# Altium footprint library EISI.PcbLib: 695 footprints (part 9 of 44)
Each footprint in its own frame and in the unit in brackets; x right, y up, seen from the top. Pads: shape width x height; smd on the part's side, far side on the other; paste and mask are expansions set on the pad; w line width, h text height; cw(c..) or ccw(c..) is an arc to the next point about the centre after c.
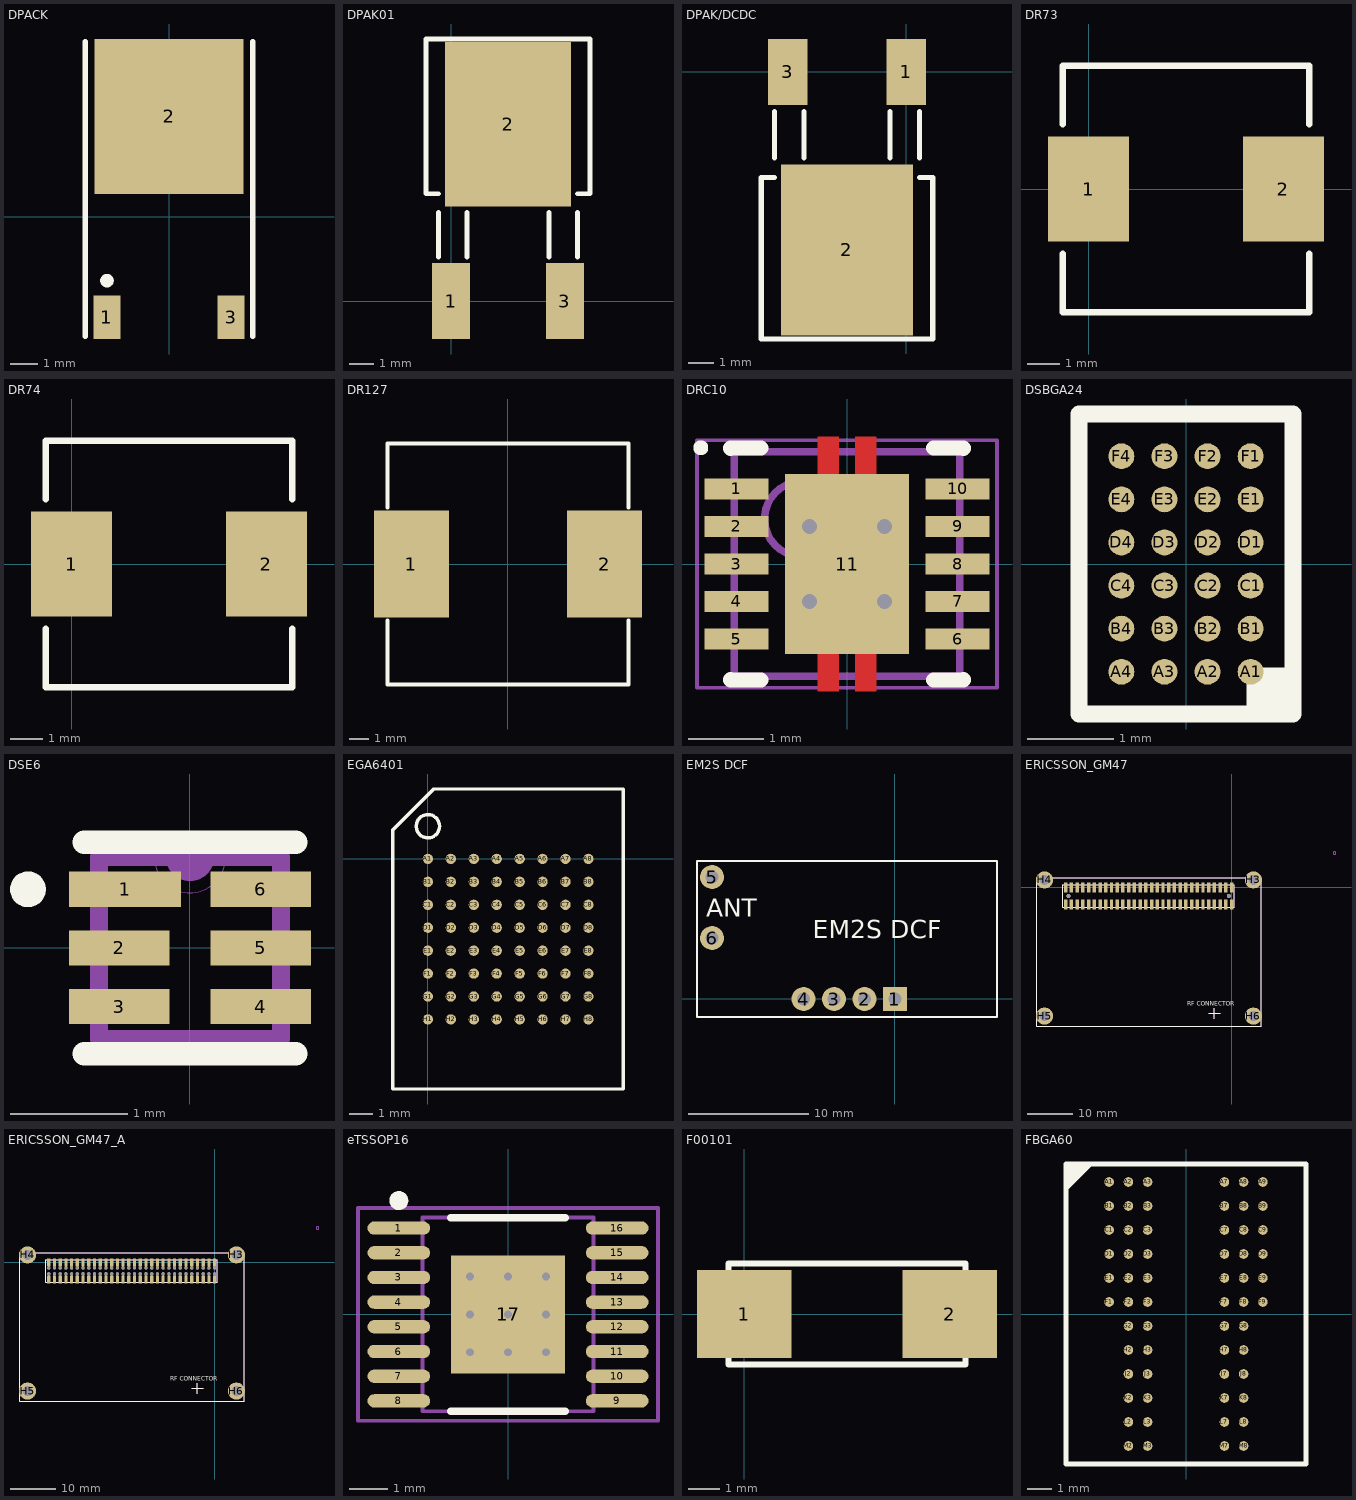
[diagram p8: the footprints below, top view; thin cyan lines are the x and y axes]

## DPACK [mm] "D-PAK; Body 10.3 x 6.7 mm"
height 2.38
pads (3):
  rect 1x1.6 smd: 1(-2.285,-3.7) 3(2.285,-3.7)
  rect 5.5x5.7 smd: 2(0,3.7)
TopOverlay:
  circle w0.25: c-2.285,-2.35 r0.125
  lines w0.2: -3.085,-4.4 -3.085,6.45 ; 3.085,-4.4 3.085,6.45

## DPAK01 [mil]
pads (3):
  rect 60x120 smd: 1(0,0) 3(180,0)
  rect 200x260 smd: 2(90,280)
TopOverlay:
  lines w7.87: -20,70 -20,140 ; -20,170 -40,170 -40,415 220,415 220,170 200,170 ; 25,70 25,140 ; 155,70 155,140 ; 200,70 200,140

## DPAK/DCDC [mil]
pads (3):
  rect 60x100 smd: 1(0,0) 3(-180,0)
  rect 200x260 smd: 2(-90,-270)
TopOverlay:
  lines w7.87: -200,-160 -220,-160 -220,-405 40,-405 40,-160 20,-160 ; -200,-130 -200,-60 ; -155,-130 -155,-60 ; -25,-130 -25,-60 ; 20,-130 20,-60

## DR73 [mm] "Inductance Coiltronic DR73 7.6mm x 7.6 mm"
height 3.55
pads (2):
  rect 2.5x3.25 smd: 1(0,0) 2(6,0)
TopOverlay:
  lines w0.2: -0.8,-2 -0.8,-3.8 6.8,-3.8 6.8,-2 ; -0.8,2 -0.8,3.8 6.8,3.8 6.8,2

## DR74 [mm] "Inductance Coiltronic DR74 7.6mm x 7.6 mm"
height 4.35
pads (2):
  rect 2.5x3.25 smd: 1(0,0) 2(6,0)
TopOverlay:
  lines w0.2: -0.8,-2 -0.8,-3.8 6.8,-3.8 6.8,-2 ; -0.8,2 -0.8,3.8 6.8,3.8 6.8,2

## DR127 [mm] "Inductance DR127"
height 8
pads (2):
  rect 3.85x5.5 smd: 1(-4.975,0) 2(4.975,0)
TopOverlay:
  lines w0.2: -6.2,-2.9 -6.2,-6.2 6.2,-6.2 6.2,-2.9 ; -6.2,2.9 -6.2,6.2 6.2,6.2 6.2,2.9

## DRC10 [mm] "SON, 10-Leads, Body 3x3mm, Pitch 0.5mm, Thermal Pad 3x1.65mm"
height 1
pads (11):
  rect 0.85x0.28 smd: 1(-1.475,1) 2(-1.475,0.5) 3(-1.475,0) 4(-1.475,-0.5) 5(-1.475,-1) 6(1.475,-1) 7(1.475,-0.5) 8(1.475,0) 9(1.475,0.5) 10(1.475,1)
  rect 1.65x2.4 smd: 11(0,0)
via -0.5,0.5 diameter 0.5 hole 0.2
via 0.5,0.5 diameter 0.5 hole 0.2
via -0.5,-0.5 diameter 0.5 hole 0.2
via 0.5,-0.5 diameter 0.5 hole 0.2
TopLayer:
  region: -0.11,1.2 -0.11,1.7 -0.39,1.7 -0.39,1.2
  region: 0.11,-1.2 0.11,-1.7 0.39,-1.7 0.39,-1.2
  region: -0.11,-1.2 -0.11,-1.7 -0.39,-1.7 -0.39,-1.2
  region: 0.11,1.2 0.11,1.7 0.39,1.7 0.39,1.2
TopOverlay:
  circle w0.1: c-1.95,1.55 r0.05
  lines w0.2: -1.55,-1.54 -1.55,-1.55 -1.15,-1.55 ; -1.55,1.54 -1.55,1.55 -1.15,1.55 ; 1.15,-1.55 1.55,-1.55 1.55,-1.54 ; 1.15,1.55 1.55,1.55 1.55,1.54
TopPaste:
  region: -0.11,1.2 -0.11,1.7 -0.39,1.7 -0.39,1.2
  region: 0.11,-1.2 0.11,-1.7 0.39,-1.7 0.39,-1.2
  region: -0.11,-1.2 -0.11,-1.7 -0.39,-1.7 -0.39,-1.2
  region: 0.11,1.2 0.11,1.7 0.39,1.7 0.39,1.2
Mechanical13:
  circle w0.1: c-0.6,0.6 r0.5
  lines w0.1: -1.5,-1.5 -1.5,1.5 1.5,1.5 1.5,-1.5 -1.5,-1.5
Mechanical15:
  lines w0.05: -2,-1.65 -2,1.65 2,1.65 2,-1.65 -2,-1.65
  lines w0.1: -0.5,0 0.5,0 ; 0,-0.5 0,0.5
3D body: height 1, standoff 0, extent -1.5,-1.5 1.5,1.5

## DSBGA24 [mm] "DSBGA24 (YZF) 2.45mm x 3.45mm"
height 0.625
pads (24):
  round 0.3 smd: A1(0.75,-1.25) A2(0.25,-1.25) A3(-0.25,-1.25) A4(-0.75,-1.25) B1(0.75,-0.75) B2(0.25,-0.75) B3(-0.25,-0.75) B4(-0.75,-0.75) C1(0.75,-0.25) C2(0.25,-0.25) C3(-0.25,-0.25) C4(-0.75,-0.25) D1(0.75,0.25) D2(0.25,0.25) D3(-0.25,0.25) D4(-0.75,0.25) E1(0.75,0.75) E2(0.25,0.75) E3(-0.25,0.75) E4(-0.75,0.75) F1(0.75,1.25) F2(0.25,1.25) F3(-0.25,1.25) F4(-0.75,1.25)
TopOverlay:
  lines w0.2: 0.8,-1.74 0.8,-1.3 1.14,-1.3 1.24,-1.4 ; 1.24,-1.4 1.24,-1.5 1,-1.74 1,-1.4 1.24,-1.4 ; -1.24,-1.74 -1.24,1.74 1.24,1.74 1.24,-1.74 -1.24,-1.74

## DSE6 [mm]
height 0.8
pads (6):
  rect 0.954x0.3 smd paste-0.15: 1(-0.553,0.5)
  rect 0.854x0.3 smd paste-0.15: 2(-0.603,0) 3(-0.603,-0.5) 4(0.603,-0.5) 5(0.603,0) 6(0.603,0.5)
TopOverlay:
  circle w0.152: c-1.381,0.5 r0.076
  lines w0.2: -0.9,-0.9 0.9,-0.9 ; -0.9,0.9 0.9,0.9
TopPaste:
  region: 1.005,0.625 0.201,0.625 0.201,0.375 1.005,0.375
  region: 1.005,0.125 0.201,0.125 0.201,-0.125 1.005,-0.125
  region: 1.005,-0.375 0.201,-0.375 0.201,-0.625 1.005,-0.625
  region: -0.201,-0.375 -1.005,-0.375 -1.005,-0.625 -0.201,-0.625
  region: -0.201,0.125 -1.005,0.125 -1.005,-0.125 -0.201,-0.125
  region: -0.201,0.625 -1.005,0.625 -1.005,0.375 -0.201,0.375
TopSolder:
  region: 1.1,0.72 0.106,0.72 0.106,0.28 1.1,0.28
  region: 1.1,0.22 0.106,0.22 0.106,-0.22 1.1,-0.22
  region: 1.1,-0.28 0.106,-0.28 0.106,-0.72 1.1,-0.72
  region: -0.106,-0.28 -1.1,-0.28 -1.1,-0.72 -0.106,-0.72
  region: -0.106,0.22 -1.1,0.22 -1.1,-0.22 -0.106,-0.22
  region: -0.106,0.72 -1.1,0.72 -1.1,0.28 -0.106,0.28
Mechanical15:
  circle w0: c-1.381,0.5 r0.076
  lines w0: -0.305,0.775 ccw(c0,0.775) 0.305,0.775 ; -0.775,-0.775 -0.775,0.775 0.775,0.775 0.775,-0.775 -0.775,-0.775
  lines w0.152: -0.129,0.775 ccw(c0,0.775) 0.129,0.775 ; -0.775,-0.775 0.775,-0.775 0.775,0.775 -0.775,0.775 -0.775,-0.775

## EGA6401 [mm]
pads (64):
  round 0.45 smd: A1(0,0) A2(1,0) A3(2,0) A4(3,0) A5(4,0) A6(5,0) A7(6,0) A8(7,0) B1(0,-1) B2(1,-1) B3(2,-1) B4(3,-1) B5(4,-1) B6(5,-1) B7(6,-1) B8(7,-1) C1(0,-2) C2(1,-2) C3(2,-2) C4(3,-2) C5(4,-2) C6(5,-2) C7(6,-2) C8(7,-2) D1(0,-3) D2(1,-3) D3(2,-3) D4(3,-3) D5(4,-3) D6(5,-3) D7(6,-3) D8(7,-3) E1(0,-4) E2(1,-4) E3(2,-4) E4(3,-4) E5(4,-4) E6(5,-4) E7(6,-4) E8(7,-4) F1(0,-5) F2(1,-5) F3(2,-5) F4(3,-5) F5(4,-5) F6(5,-5) F7(6,-5) F8(7,-5) G1(0,-6) G2(1,-6) G3(2,-6) G4(3,-6) G5(4,-6) G6(5,-6) G7(6,-6) G8(7,-6) H1(0,-7) H2(1,-7) H3(2,-7) H4(3,-7) H5(4,-7) H6(5,-7) H7(6,-7) H8(7,-7)
TopOverlay:
  circle w0.152: c-0.002,1.424 r0.508
  lines w0.152: -1.524,-10.033 8.509,-10.033 8.509,3.048 0.254,3.048 -1.524,1.27 -1.524,-10.033

## EM2S DCF [mm]
pads (6):
  rect 2x2 hole 1.1: 1(0.002,-0.008)
  round 2 hole 1.1: 2(-2.538,-0.008) 3(-5.078,-0.008) 4(-7.618,-0.008) 5(-15.238,10.152) 6(-15.238,5.072)
TopOverlay:
  lines w0.2: -16.498,-1.508 -16.498,11.492 8.502,11.492 8.502,-1.508 -16.498,-1.508
  text "ANT" at -15.746,6.85 h1.52
  text "EM2S DCF" at -6.856,5.072 h1.52

## ERICSSON_GM47 [mil]
pads (66):
  rect 30x86 smd: 1(0,-150) 2(0,0) 3(-50,-150) 4(-50,0) 5(-100,-150) 6(-100,0) 7(-150,-150) 8(-150,0) 9(-200,-150) 10(-200,0) 11(-250,-150) 12(-250,0) 13(-300,-150) 14(-300,0) 15(-350,-150) 16(-350,0) 17(-400,-150) 18(-400,0) 19(-450,-150) 20(-450,0) 21(-500,-150) 22(-500,0) 23(-550,-150) 24(-550,0) 25(-600,-150) 26(-600,0) 27(-650,-150) 28(-650,0) 29(-700,-150) 30(-700,0) 31(-750,-150) 32(-750,0) 33(-800,-150) 34(-800,0) 35(-850,-150) 36(-850,0) 37(-900,-150) 38(-900,0) 39(-950,-150) 40(-950,0) 41(-1000,-150) 42(-1000,0) 43(-1050,-150) 44(-1050,0) 45(-1100,-150) 46(-1100,0) 47(-1150,-150) 48(-1150,0) 49(-1200,-150) 50(-1200,0) 51(-1250,-150) 52(-1250,0) 53(-1300,-150) 54(-1300,0) 55(-1350,-150) 56(-1350,0) 57(-1400,-150) 58(-1400,0) 59(-1450,-150) 60(-1450,0)
  round 35 hole 35: H1(-1425,-75) H2(-25,-75)
  round 150 hole 86: H3(190,65) H4(-1635,65) H5(-1635,-1125) H6(190,-1125)
TopOverlay:
  lines w7.87: -1475,-175 -950,-175 25,-175 25,25 -1475,25 -1475,-175
  lines w10: -200,-1100 -100,-1100 ; -150,-1150 -150,-1055 ; -1705,-1215 -1705,85 260,85 260,-1165 260,-1215 -1705,-1215
  text ".Designator" at -1059.45,-555.62 h56.25
  text "RF CONNECTOR" at -390,-1035 h37.5
Mechanical1:
  lines w7.87: -1475,-175 -950,-175 25,-175 25,25 -1475,25 -1475,-175
  lines w10: -200,-1100 -100,-1100 ; -150,-1150 -150,-1055 ; -1705,-1215 260,-1215 260,-1165 260,85 -1705,85 -1705,-1215
  text ".Comment" at -1058.33,-655.62 h56.25
  text "ERICSSON_GM47" at -1057.5,-458.37 h56.25
  text ".Designator" at -1059.45,-555.62 h56.25
Mechanical3:
  lines w4: 887.5,300 cw(c900,300) 900,312.5 cw(c900,300) 912.5,300 cw(c900,300) 900,287.5 cw(c900,300) 887.5,300

## ERICSSON_GM47_A [mil]
pads (124):
  rect 28x70 smd: 1(0,-150) 2(0,0) 3(-50,-150) 4(-50,0) 5(-100,-150) 6(-100,0) 7(-150,-150) 8(-150,0) 9(-200,-150) 10(-200,0) 11(-250,-150) 12(-250,0) 13(-300,-150) 14(-300,0) 15(-350,-150) 16(-350,0) 17(-400,-150) 18(-400,0) 19(-450,-150) 20(-450,0) 21(-500,-150) 22(-500,0) 23(-550,-150) 24(-550,0) 25(-600,-150) 26(-600,0) 27(-650,-150) 28(-650,0) 29(-700,-150) 30(-700,0) 31(-750,-150) 32(-750,0) 33(-800,-150) 34(-800,0) 35(-850,-150) 36(-850,0) 37(-900,-150) 38(-900,0) 39(-950,-150) 40(-950,0) 41(-1000,-150) 42(-1000,0) 43(-1050,-150) 44(-1050,0) 45(-1100,-150) 46(-1100,0) 47(-1150,-150) 48(-1150,0) 49(-1200,-150) 50(-1200,0) 51(-1250,-150) 52(-1250,0) 53(-1300,-150) 54(-1300,0) 55(-1350,-150) 56(-1350,0) 57(-1400,-150) 58(-1400,0) 59(-1450,-150) 60(-1450,0)
  round 28 hole 28: 61(0,-100) 62(0,-50) 63(-50,-100) 64(-50,-50) 65(-100,-100) 66(-100,-50) 67(-150,-100) 68(-150,-50) 69(-200,-100) 70(-200,-50) 71(-250,-100) 72(-250,-50) 73(-300,-100) 74(-300,-50) 75(-350,-100) 76(-350,-50) 77(-400,-100) 78(-400,-50) 79(-450,-100) 80(-450,-50) 81(-500,-100) 82(-500,-50) 83(-550,-100) 84(-550,-50) 85(-600,-100) 86(-600,-50) 87(-650,-100) 88(-650,-50) 89(-700,-100) 90(-700,-50) 91(-750,-100) 92(-750,-50) 93(-800,-100) 94(-800,-50) 95(-850,-100) 96(-850,-50) 97(-900,-100) 98(-900,-50) 99(-950,-100) 100(-950,-50) 101(-1000,-100) 102(-1000,-50) 103(-1050,-100) 104(-1050,-50) 105(-1100,-100) 106(-1100,-50) 107(-1150,-100) 108(-1150,-50) 109(-1200,-100) 110(-1200,-50) 111(-1250,-100) 112(-1250,-50) 113(-1300,-100) 114(-1300,-50) 115(-1350,-100) 116(-1350,-50) 117(-1400,-100) 118(-1400,-50) 119(-1450,-100) 120(-1450,-50)
  round 150 hole 86: H3(190,65) H4(-1635,65) H5(-1635,-1125) H6(190,-1125)
TopOverlay:
  lines w7.87: -1475,-175 -1475,25 25,25 25,-175 -950,-175 -1475,-175
  lines w10: -200,-1100 -100,-1100 ; -150,-1150 -150,-1055 ; -1705,-1215 260,-1215 260,-1165 260,85 -1705,85 -1705,-1215
  text "RF CONNECTOR" at -390,-1035 h37.5
  text ".Designator" at -1059.45,-555.62 h56.25
Mechanical1:
  lines w7.87: -1475,-175 -1475,25 25,25 25,-175 -950,-175 -1475,-175
  lines w10: -200,-1100 -100,-1100 ; -150,-1150 -150,-1055 ; -1705,-1215 -1705,85 260,85 260,-1165 260,-1215 -1705,-1215
  text "ERICSSON_GM47_A" at -1057.5,-458.37 h56.25
  text ".Comment" at -1058.33,-655.62 h56.25
  text ".Designator" at -1059.45,-555.62 h56.25
Mechanical3:
  lines w4: 887.5,300 ccw(c900,300) 900,287.5 ccw(c900,300) 912.5,300 ccw(c900,300) 900,312.5 ccw(c900,300) 887.5,300

## eTSSOP16 [mm] "TSOP, 16-Leads, Body 5x4.4mm, Pitch 0.65mm, Exposed Pad, IPC Medium Density"
height 1.1
pads (17):
  oval 1.65x0.35 smd: 1(-2.875,2.275) 2(-2.875,1.625) 3(-2.875,0.975) 4(-2.875,0.325) 5(-2.875,-0.325) 6(-2.875,-0.975) 7(-2.875,-1.625) 8(-2.875,-2.275) 9(2.875,-2.275) 10(2.875,-1.625) 11(2.875,-0.975) 12(2.875,-0.325) 13(2.875,0.325) 14(2.875,0.975) 15(2.875,1.625) 16(2.875,2.275)
  rect 3x3.1 smd: 17(0,0)
via 1,1 diameter 0.4 hole 0.2
via 1,-1 diameter 0.4 hole 0.2
via 1,0 diameter 0.4 hole 0.2
via -1,1 diameter 0.4 hole 0.2
via 0,1 diameter 0.4 hole 0.2
via 0,-1 diameter 0.4 hole 0.2
via -1,-1 diameter 0.4 hole 0.2
via 0,0 diameter 0.4 hole 0.2
via -1,0 diameter 0.4 hole 0.2
TopOverlay:
  circle w0.25: c-2.875,3 r0.125
  lines w0.2: -1.5,-2.55 1.5,-2.55 ; -1.5,2.55 1.5,2.55
Mechanical13:
  lines w0.1: -2.25,-2.55 -2.25,2.55 2.25,2.55 2.25,-2.55 -2.25,-2.55
Mechanical15:
  lines w0.1: -0.5,0 0.5,0 ; 0,-0.5 0,0.5 ; -3.95,-2.8 -3.95,2.8 3.95,2.8 3.95,-2.8 -3.95,-2.8
3D body: height 1.1, standoff 0, extent -2.25,-2.55 2.25,2.55

## F00101 [mm] "Fusible Schurter OMT 125"
height 2.6
pads (2):
  rect 3x2.8 smd: 1(0,0) 2(6.5,0)
TopOverlay:
  lines w0.2: -0.5,-1.3 -0.5,-1.6 0,-1.6 7,-1.6 7,-1.3 ; -0.5,1.3 -0.5,1.6 7,1.6 7,1.3

## FBGA60 [mm] "60-Ball FBGA Micron 10 x 12.5mm"
height 1.2
pads (60):
  round 0.4 smd: A1(-3.2,5.5) A2(-2.4,5.5) A3(-1.6,5.5) A7(1.6,5.5) A8(2.4,5.5) A9(3.2,5.5) B1(-3.2,4.5) B2(-2.4,4.5) B3(-1.6,4.5) B7(1.6,4.5) B8(2.4,4.5) B9(3.2,4.5) C1(-3.2,3.5) C2(-2.4,3.5) C3(-1.6,3.5) C7(1.6,3.5) C8(2.4,3.5) C9(3.2,3.5) D1(-3.2,2.5) D2(-2.4,2.5) D3(-1.6,2.5) D7(1.6,2.5) D8(2.4,2.5) D9(3.2,2.5) E1(-3.2,1.5) E2(-2.4,1.5) E3(-1.6,1.5) E7(1.6,1.5) E8(2.4,1.5) E9(3.2,1.5) F1(-3.2,0.5) F2(-2.4,0.5) F3(-1.6,0.5) F7(1.6,0.5) F8(2.4,0.5) F9(3.2,0.5) G2(-2.4,-0.5) G3(-1.6,-0.5) G7(1.6,-0.5) G8(2.4,-0.5) H2(-2.4,-1.5) H3(-1.6,-1.5) H7(1.6,-1.5) H8(2.4,-1.5) J2(-2.4,-2.5) J3(-1.6,-2.5) J7(1.6,-2.5) J8(2.4,-2.5) K2(-2.4,-3.5) K3(-1.6,-3.5) K7(1.6,-3.5) K8(2.4,-3.5) L2(-2.4,-4.5) L3(-1.6,-4.5) L7(1.6,-4.5) L8(2.4,-4.5) M2(-2.4,-5.5) M3(-1.6,-5.5) M7(1.6,-5.5) M8(2.4,-5.5)
TopOverlay:
  lines w0.2: -5,5.25 -4,6.25 ; -5,5.5 -4.25,6.25 ; -5,5.75 -4.5,6.25 ; -5,6 -4.75,6.25 ; -5,-6.25 5,-6.25 5,6.25 0,6.25 -5,6.25 -5,-6.25